# Altium footprint library 0430450427.PcbLib: 1 footprints
Each footprint in its own frame and in the unit in brackets; x right, y up, seen from the top. Pads: shape width x height; smd on the part's side, far side on the other; paste and mask are expansions set on the pad; w line width, h text height; cw(c..) or ccw(c..) is an arc to the next point about the centre after c.
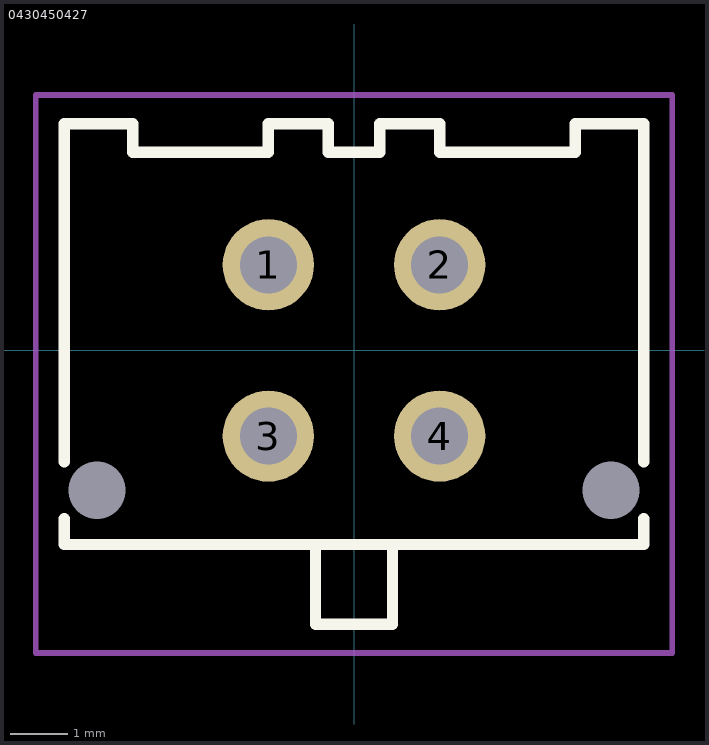
[diagram p0: the footprint, top view; thin cyan lines are the x and y axes]

## 0430450427 [mm]
pads (6):
  round 1.6 hole 1: 1(-1.5,1.5) 2(1.5,1.5) 3(-1.5,-1.5) 4(1.5,-1.5)
  round 0.5 hole 1 unplated: ""(-4.5,-2.45) ""(4.5,-2.45)
Top Overlay:
  lines w0.2: -5.075,-2.95 -5.075,-3.4 5.075,-3.4 5.075,-2.95 ; -5.075,-1.95 -5.075,3.975 -3.875,3.975 -3.875,3.475 -1.5,3.475 -1.5,3.975 -0.45,3.975 -0.45,3.475 0.45,3.475 0.45,3.975 1.5,3.975 1.5,3.475 3.875,3.475 3.875,3.975 5.075,3.975 5.075,-1.95 ; -0.675,-4.8 -0.675,-3.4 ; -0.675,-4.8 0.675,-4.8 0.675,-3.4
Top Courtyard:
  lines w0.1: -5.575,-5.3 -5.575,4.475 5.575,4.475 5.575,-5.3 -5.575,-5.3
3D body "step_temp.STEP": height 9.95, standoff -3.14, extent -5.075,-4.8 5.075,3.97